# EAGLE library part CD74HC4046A (library ICs)
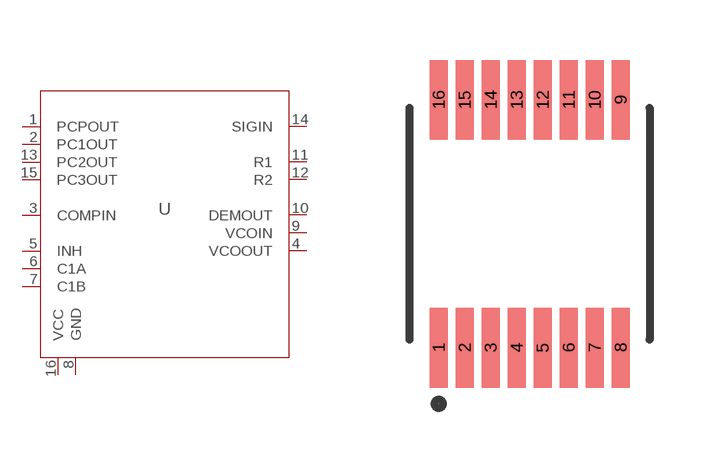
[diagram p39: symbol with the pads of TSSOP16; footprint TSSOP16]

Designator prefix U

## CD74HC4046A (MFG: Texas Instruments; PN: CD74HC4046APWR)  [TSSOP16]
1  PCPOUT  out
2  PC1OUT  out
3  COMPIN  in
4  VCOOUT  out
5  INH  in
6  C1A  pas
7  C1B  pas
8  GND  pwr
9  VCOIN  in
10  DEMOUT  out
11  R1  pas
12  R2  pas
13  PC2OUT  out
14  SIGIN  in
15  PC3OUT  out
16  VCC  pwr

## Footprint TSSOP16 (pad centres in mm)
16-Lead Plastic Thin Shrink Small Outline (ST) - 4.4 mm Body TSSOP
smd 0.45 x 2: 1 -2.275,-3.1; 2 -1.625,-3.1; 3 -0.975,-3.1; 4 -0.325,-3.1; 5 0.325,-3.1; 6 0.975,-3.1; 7 1.625,-3.1; 8 2.275,-3.1; 9 2.275,3.1; 10 1.625,3.1; 11 0.975,3.1; 12 0.325,3.1; 13 -0.325,3.1; 14 -0.975,3.1; 15 -1.625,3.1; 16 -2.275,3.1